# Altium schematic symbol library PMIC - Gate Drivers.SchLib: 3 symbols
Pins are listed as number, name and electrical type; pins without a type are passive.

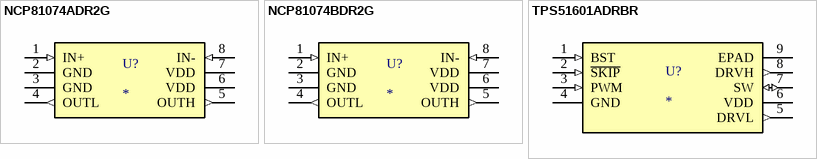
[diagram p0: symbols NCP81074ADR2G to TPS51601ADRBR]

## NCP81074ADR2G
designator U?
IC GATE DRVR LOW-SIDE 8SOIC; Supplier 1: Digi-Key; Supplier 2: Farnell; Supplier 3: Mouser; Supplier Part Number 1: NCP81074ADR2GOSDKR-ND; Supplier Part Number 2: 2844981; Supplier Part Number 3: 863-NCP81074ADR2G
footprint ONS_8-SOIC
pins: 1 IN+ (in), 2 GND, 3 GND, 4 OUTL (out), 5 OUTH (out), 6 VDD (power), 7 VDD (power), 8 IN- (in)

## NCP81074BDR2G
designator U?
IC GATE DRVR LOW-SIDE 8SOIC; Supplier 1: Digi-Key; Supplier 2: Farnell; Supplier 3: Mouser; Supplier 4: Arrow Electronics; Supplier Part Number 1: NCP81074BDR2GOSCT-ND; Supplier Part Number 2: 2507591; Supplier Part Number 3: 863-NCP81074BDR2G; Supplier Part Number 4: NCP81074BDR2G
footprint ONS_8-SOIC
pins: 1 IN+ (in), 2 GND, 3 GND, 4 OUTL (out), 5 OUTH (out), 6 VDD (power), 7 VDD (power), 8 IN- (in)

## TPS51601ADRBR
designator U?
IC GATE DRVR HALF-BRIDGE 8SON; Supplier 1: Digi-Key; Supplier 2: Mouser; Supplier 3: Arrow Electronics; Supplier Part Number 1: 296-30534-1-ND; Supplier Part Number 2: 595-TPS51601ADRBR; Supplier Part Number 3: TPS51601ADRBR
footprint TI_8-SON (3x3)
pins: 1 BST (in), 2 ~{SKIP} (in), 3 PWM (in), 4 GND (power), 5 DRVL (out), 6 VDD (power), 7 SW (io), 8 DRVH (out), 9 EPAD